# Altium schematic symbol library 2019-03-01_21-49-29.SchLib: 2 symbols
Pins are listed as number, name and electrical type; pins without a type are passive.

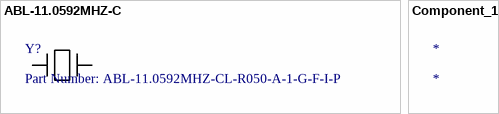
[diagram p0: symbols ABL-11.0592MHZ-C to Component_1]

## ABL-11.0592MHZ-C
designator Y?, comment Part Number: ABL-11.0592MHZ-CL-R050-A-1-G-F-I-P
No Description Available; Vendor: Abracon; Built_By: EMA_UL_Team; Manufacturer_Part_Number: ABL-11.0592MHZ-CL-R050-A-1-G-F-I-P; Copyright: Copyright (C) 2018 Accelerated Designs. All rights reserved; RefDes: RefDes; Type: DEV; Value: Value
footprint ABL_Series
pins: 1, 2

## Component_1
designator *